# Altium footprint library FPGA_MG2.PcbLib: 42 footprints (part 1 of 3)
Each footprint in its own frame and in the unit in brackets; x right, y up, seen from the top. Pads: shape width x height; smd on the part's side, far side on the other; paste and mask are expansions set on the pad; w line width, h text height; cw(c..) or ccw(c..) is an arc to the next point about the centre after c.
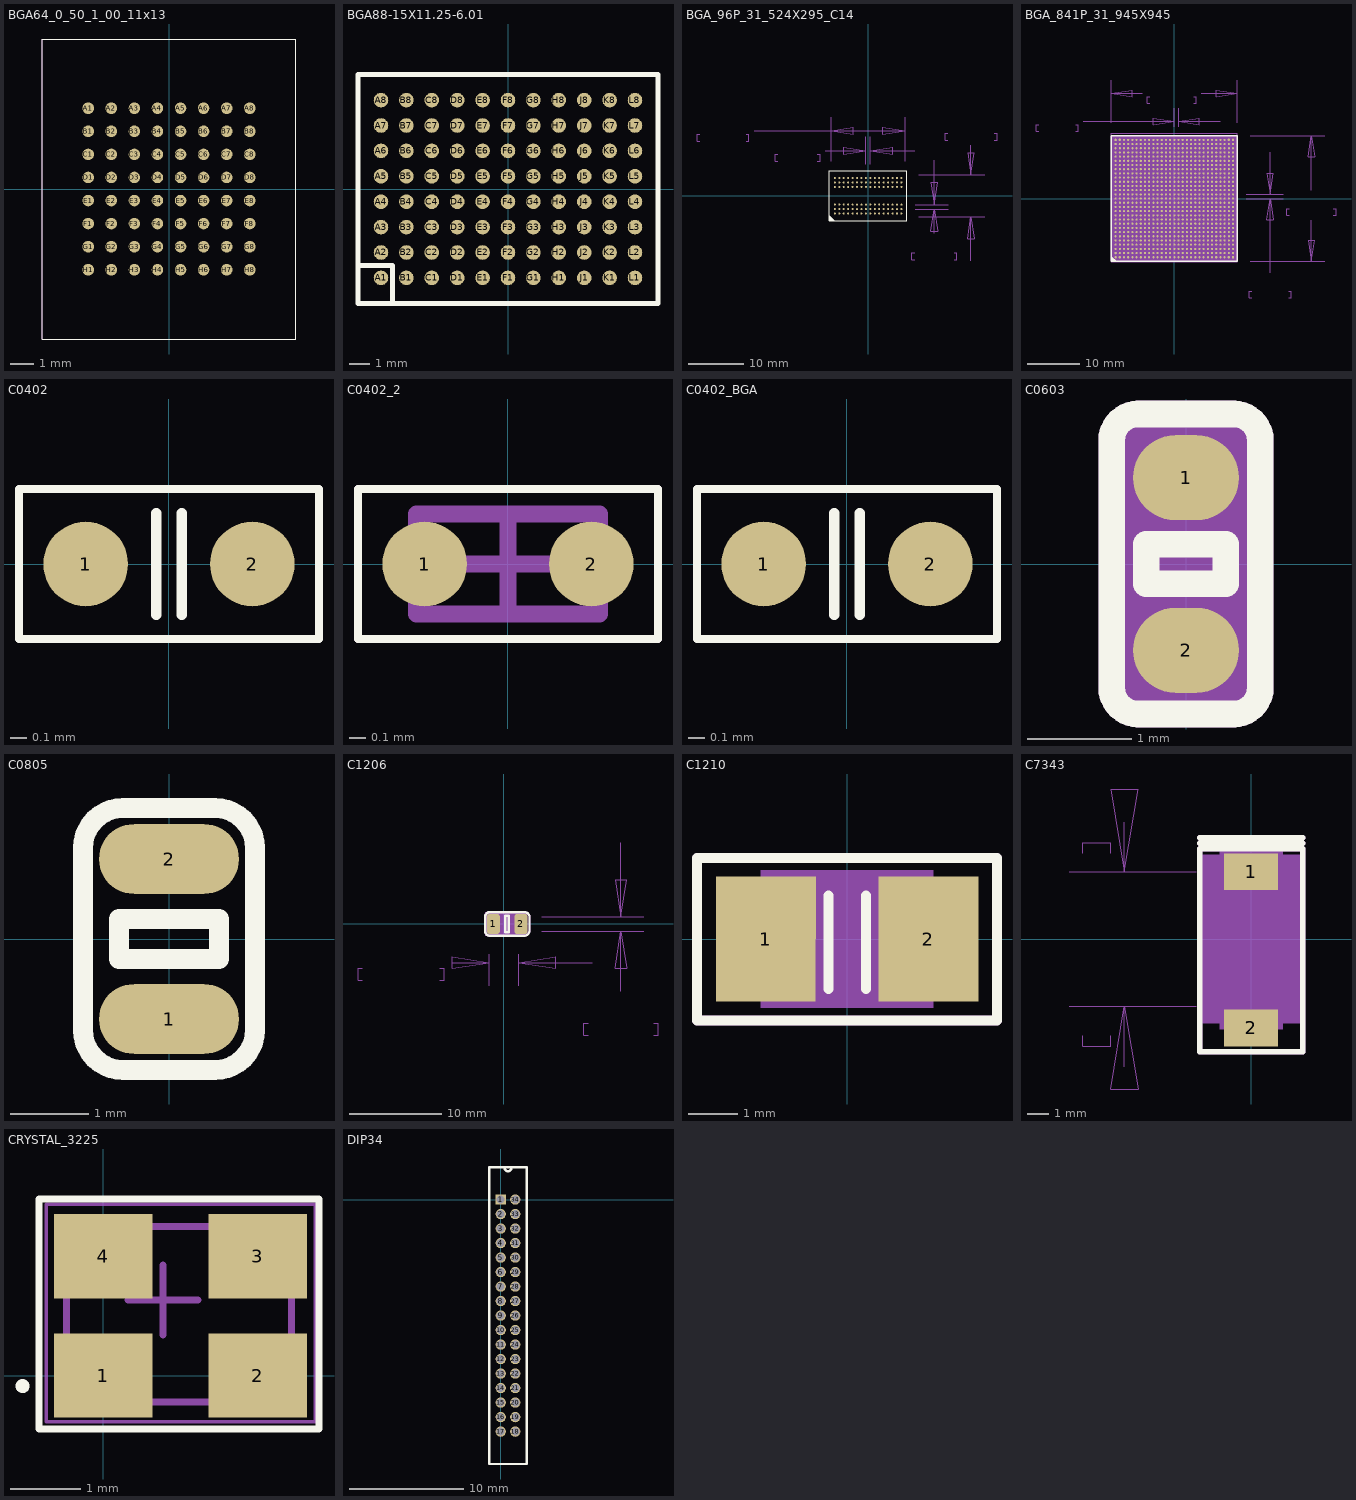
[diagram p0: the footprints below, top view; thin cyan lines are the x and y axes]

## BGA64_0_50_1_00_11x13 [mm] "BGA64_0_50_1_00_11X13"
pads (64):
  round 0.5 smd: A1(-3.5,3.5) A2(-2.5,3.5) A3(-1.5,3.5) A4(-0.5,3.5) A5(0.5,3.5) A6(1.5,3.5) A7(2.5,3.5) A8(3.5,3.5) B1(-3.5,2.5) B2(-2.5,2.5) B3(-1.5,2.5) B4(-0.5,2.5) B5(0.5,2.5) B6(1.5,2.5) B7(2.5,2.5) B8(3.5,2.5) C1(-3.5,1.5) C2(-2.5,1.5) C3(-1.5,1.5) C4(-0.5,1.5) C5(0.5,1.5) C6(1.5,1.5) C7(2.5,1.5) C8(3.5,1.5) D1(-3.5,0.5) D2(-2.5,0.5) D3(-1.5,0.5) D4(-0.5,0.5) D5(0.5,0.5) D6(1.5,0.5) D7(2.5,0.5) D8(3.5,0.5) E1(-3.5,-0.5) E2(-2.5,-0.5) E3(-1.5,-0.5) E4(-0.5,-0.5) E5(0.5,-0.5) E6(1.5,-0.5) E7(2.5,-0.5) E8(3.5,-0.5) F1(-3.5,-1.5) F2(-2.5,-1.5) F3(-1.5,-1.5) F4(-0.5,-1.5) F5(0.5,-1.5) F6(1.5,-1.5) F7(2.5,-1.5) F8(3.5,-1.5) G1(-3.5,-2.5) G2(-2.5,-2.5) G3(-1.5,-2.5) G4(-0.5,-2.5) G5(0.5,-2.5) G6(1.5,-2.5) G7(2.5,-2.5) G8(3.5,-2.5) H1(-3.5,-3.5) H2(-2.5,-3.5) H3(-1.5,-3.5) H4(-0.5,-3.5) H5(0.5,-3.5) H6(1.5,-3.5) H7(2.5,-3.5) H8(3.5,-3.5)
Top Overlay:
  lines w0.025: -5.5,-6.5 -5.5,6.5 5.5,6.5 5.5,-6.5 -5.5,-6.5
Mechanical 5:
  lines w0.025: -5.5,-6.5 -5.5,6.5 5.5,6.5 5.5,-6.5 -5.5,-6.5
  text "U7" at -0.192,6.836 h0.64
Mechanical 14:
  text "H7" at 2.094,-3.5 h0.51
  text "E8" at 3.094,-0.5 h0.51
  text "H2" at -2.907,-3.5 h0.51
  text "G5" at 0.094,-2.5 h0.51
  text "G6" at 1.094,-2.5 h0.51
  text "G3" at -1.907,-2.5 h0.51
  text "F3" at -1.907,-1.5 h0.51
  text "F5" at 0.094,-1.5 h0.51
  text "G4" at -0.907,-2.5 h0.51
  text "F2" at -2.907,-1.5 h0.51
  text "A4" at -0.907,3.5 h0.51
  text "F6" at 1.094,-1.5 h0.51
  text "G7" at 2.094,-2.5 h0.51
  text "F4" at -0.907,-1.5 h0.51
  text "A5" at 0.094,3.5 h0.51
  text "G2" at -2.907,-2.5 h0.51
  text "C7" at 2.094,1.5 h0.51
  text "C2" at -2.907,1.5 h0.51
  text "C6" at 1.094,1.5 h0.51
  text "A2" at -2.907,3.5 h0.51
  text "A3" at -1.907,3.5 h0.51
  text "D7" at 2.094,0.5 h0.51
  text "D3" at -1.907,0.5 h0.51
  text "A6" at 1.094,3.5 h0.51
  text "C3" at -1.907,1.5 h0.51
  text "E7" at 2.094,-0.5 h0.51
  text "D2" at -2.907,0.5 h0.51
  text "B6" at 1.094,2.5 h0.51
  text "D6" at 1.094,0.5 h0.51
  text "B2" at -2.907,2.5 h0.51
  text "E3" at -1.907,-0.5 h0.51
  text "E5" at 0.094,-0.5 h0.51
  text "A7" at 2.094,3.5 h0.51
  text "H6" at 1.094,-3.5 h0.51
  text "B7" at 2.094,2.5 h0.51
  text "H5" at 0.094,-3.5 h0.51
  text "E6" at 1.094,-0.5 h0.51
  text "H4" at -0.907,-3.5 h0.51
  text "E4" at -0.907,-0.5 h0.51
  text "H3" at -1.907,-3.5 h0.51
  text "B3" at -1.907,2.5 h0.51
  text "C4" at -0.907,1.5 h0.51
  text "D5" at 0.094,0.5 h0.51
  text "D4" at -0.907,0.5 h0.51
  text "C5" at 0.094,1.5 h0.51
  text "B8" at 3.094,2.5 h0.51
  text "E2" at -2.907,-0.5 h0.51
  text "C8" at 3.094,1.5 h0.51
  text "B5" at 0.094,2.5 h0.51
  text "B4" at -0.907,2.5 h0.51
  text "F7" at 2.094,-1.5 h0.51
  text "B1" at -3.907,2.5 h0.51
  text "F8" at 3.094,-1.5 h0.51
  text "G8" at 3.094,-2.5 h0.51
  text "G1" at -3.907,-2.5 h0.51
  text "E1" at -3.907,-0.5 h0.51
  text "D1" at -3.907,0.5 h0.51
  text "C1" at -3.907,1.5 h0.51
  text "H8" at 3.094,-3.5 h0.51
  text "H1" at -3.907,-3.5 h0.51
  text "A8" at 3.094,3.5 h0.51
  text "A1" at -3.907,3.5 h0.51
  text "D8" at 3.094,0.5 h0.51
  text "F1" at -3.907,-1.5 h0.51
Mechanical 16:
  lines w0.025: -5.5,-6.5 -5.5,6.5 ; -5.5,-6.5 5.5,-6.5 ; -5.5,-6.5 -5.5,6.5 ; -5.5,-6.5 5.5,-6.5 ; -5.5,-6.5 -5.5,6.5 ; -5.5,-6.5 5.5,-6.5 ; -5.5,6.5 5.5,6.5 ; -5.5,6.5 5.5,6.5 ; -5.5,6.5 5.5,6.5 ; 5.5,-6.5 5.5,6.5 ; 5.5,-6.5 5.5,6.5 ; 5.5,-6.5 5.5,6.5
Mechanical 17:
  text ".Designator" at -1.016,-0.423 h1.27

## BGA88-15X11.25-6.01 [mm]
pads (88):
  round 0.73 smd: A1(-6.35,-4.445) A2(-6.35,-3.175) A3(-6.35,-1.905) A4(-6.35,-0.635) A5(-6.35,0.635) A6(-6.35,1.905) A7(-6.35,3.175) A8(-6.35,4.445) B1(-5.08,-4.445) B2(-5.08,-3.175) B3(-5.08,-1.905) B4(-5.08,-0.635) B5(-5.08,0.635) B6(-5.08,1.905) B7(-5.08,3.175) B8(-5.08,4.445) C1(-3.81,-4.445) C2(-3.81,-3.175) C3(-3.81,-1.905) C4(-3.81,-0.635) C5(-3.81,0.635) C6(-3.81,1.905) C7(-3.81,3.175) C8(-3.81,4.445) D1(-2.54,-4.445) D2(-2.54,-3.175) D3(-2.54,-1.905) D4(-2.54,-0.635) D5(-2.54,0.635) D6(-2.54,1.905) D7(-2.54,3.175) D8(-2.54,4.445) E1(-1.27,-4.445) E2(-1.27,-3.175) E3(-1.27,-1.905) E4(-1.27,-0.635) E5(-1.27,0.635) E6(-1.27,1.905) E7(-1.27,3.175) E8(-1.27,4.445) F1(0,-4.445) F2(0,-3.175) F3(0,-1.905) F4(0,-0.635) F5(0,0.635) F6(0,1.905) F7(0,3.175) F8(0,4.445) G1(1.27,-4.445) G2(1.27,-3.175) G3(1.27,-1.905) G4(1.27,-0.635) G5(1.27,0.635) G6(1.27,1.905) G7(1.27,3.175) G8(1.27,4.445) H1(2.54,-4.445) H2(2.54,-3.175) H3(2.54,-1.905) H4(2.54,-0.635) H5(2.54,0.635) H6(2.54,1.905) H7(2.54,3.175) H8(2.54,4.445) J1(3.81,-4.445) J2(3.81,-3.175) J3(3.81,-1.905) J4(3.81,-0.635) J5(3.81,0.635) J6(3.81,1.905) J7(3.81,3.175) J8(3.81,4.445) K1(5.08,-4.445) K2(5.08,-3.175) K3(5.08,-1.905) K4(5.08,-0.635) K5(5.08,0.635) K6(5.08,1.905) K7(5.08,3.175) K8(5.08,4.445) L1(6.35,-4.445) L2(6.35,-3.175) L3(6.35,-1.905) L4(6.35,-0.635) L5(6.35,0.635) L6(6.35,1.905) L7(6.35,3.175) L8(6.35,4.445)
Top Overlay:
  lines w0.254: -7.493,-3.835 -5.765,-3.835 -5.765,-5.715 ; -7.5,-5.715 7.5,-5.715 7.5,5.715 -7.5,5.715 -7.5,-5.715

## BGA_96P_31_524X295_C14 [mil] "BGA_96P_31_524X295_C14"
pads (96):
  round 14 smd: A1(-236.22,-125.98) A2(-236.22,-94.49) A3(-236.22,-62.99) A7(-236.22,62.99) A8(-236.22,94.49) A9(-236.22,125.98) B1(-204.72,-125.98) B2(-204.72,-94.49) B3(-204.72,-62.99) B7(-204.72,62.99) B8(-204.72,94.49) B9(-204.72,125.98) C1(-173.23,-125.98) C2(-173.23,-94.49) C3(-173.23,-62.99) C7(-173.23,62.99) C8(-173.23,94.49) C9(-173.23,125.98) D1(-141.73,-125.98) D2(-141.73,-94.49) D3(-141.73,-62.99) D7(-141.73,62.99) D8(-141.73,94.49) D9(-141.73,125.98) E1(-110.24,-125.98) E2(-110.24,-94.49) E3(-110.24,-62.99) E7(-110.24,62.99) E8(-110.24,94.49) E9(-110.24,125.98) F1(-78.74,-125.98) F2(-78.74,-94.49) F3(-78.74,-62.99) F7(-78.74,62.99) F8(-78.74,94.49) F9(-78.74,125.98) G1(-47.24,-125.98) G2(-47.24,-94.49) G3(-47.24,-62.99) G7(-47.24,62.99) G8(-47.24,94.49) G9(-47.24,125.98) H1(-15.75,-125.98) H2(-15.75,-94.49) H3(-15.75,-62.99) H7(-15.75,62.99) H8(-15.75,94.49) H9(-15.75,125.98) J1(15.75,-125.98) J2(15.75,-94.49) J3(15.75,-62.99) J7(15.75,62.99) J8(15.75,94.49) J9(15.75,125.98) K1(47.24,-125.98) K2(47.24,-94.49) K3(47.24,-62.99) K7(47.24,62.99) K8(47.24,94.49) K9(47.24,125.98) L1(78.74,-125.98) L2(78.74,-94.49) L3(78.74,-62.99) L7(78.74,62.99) L8(78.74,94.49) L9(78.74,125.98) M1(110.24,-125.98) M2(110.24,-94.49) M3(110.24,-62.99) M7(110.24,62.99) M8(110.24,94.49) M9(110.24,125.98) N1(141.73,-125.98) N2(141.73,-94.49) N3(141.73,-62.99) N7(141.73,62.99) N8(141.73,94.49) N9(141.73,125.98) P1(173.23,-125.98) P2(173.23,-94.49) P3(173.23,-62.99) P7(173.23,62.99) P8(173.23,94.49) P9(173.23,125.98) R1(204.72,-125.98) R2(204.72,-94.49) R3(204.72,-62.99) R7(204.72,62.99) R8(204.72,94.49) R9(204.72,125.98) T1(236.22,-125.98) T2(236.22,-94.49) T3(236.22,-62.99) T7(236.22,62.99) T8(236.22,94.49) T9(236.22,125.98)
Top Overlay:
  lines w3.94: -275.98,-142.52 -275.2,-142.52 -241.73,-175.98 -248.82,-175.98 -275.2,-149.61 -275.2,-156.3 -255.12,-176.38 -261.42,-176.38 -274.41,-163.39 -274.41,-170.08 -268.11,-176.38 ; -275.59,-177.16 275.59,-177.16 275.59,177.16 -275.59,177.16 -275.59,-177.16
Mechanical 13:
  lines w1: -1195.67,385.04 -1214.57,385.04 -1214.57,435.04 -1195.67,435.04 ; -864.57,385.04 -845.67,385.04 -845.67,435.04 -864.57,435.04 ; -807.87,459.84 -261.81,459.84 ; -640.16,244.88 -659.06,244.88 -659.06,294.88 -640.16,294.88 ; -359.84,244.88 -340.94,244.88 -340.94,294.88 -359.84,294.88 ; -303.54,320.08 -15.75,320.08 ; -261.81,246.06 -261.81,558.27 ; -15.75,224.41 -15.75,418.5 ; 15.75,224.41 15.75,418.5 ; 261.81,246.06 261.81,558.27 ; 329.92,-455.12 311.02,-455.12 311.02,-405.12 329.92,-405.12 ; 330.71,320.08 15.75,320.08 ; 334.65,-94.49 568.5,-94.49 ; 334.65,-62.99 568.5,-62.99 ; 360.24,-147.64 828.35,-147.64 ; 360.24,147.64 828.35,147.64 ; 470.08,-267.32 470.08,-94.49 ; 470.08,251.97 470.08,-62.99 ; 564.57,394.88 545.67,394.88 545.67,444.88 564.57,444.88 ; 609.84,-455.12 629.13,-455.12 629.13,-405.12 609.84,-405.12 ; 729.92,-462.6 729.92,-147.64 ; 729.92,357.48 729.92,147.64 ; 895.67,394.88 914.57,394.88 914.57,444.88 895.67,444.88 ; -261.81,459.84 -104.33,484.65 -104.33,435.43 -261.81,459.84 ; -261.81,459.84 261.81,459.84 ; -15.75,320.08 -173.23,295.28 -173.23,344.49 -15.75,320.08 ; 15.75,320.08 173.23,344.49 173.23,295.28 15.75,320.08 ; 261.81,459.84 104.33,435.43 104.33,484.65 261.81,459.84 ; 470.08,-94.49 494.49,-251.97 445.28,-251.97 470.08,-94.49 ; 470.08,-62.99 445.28,94.49 494.49,94.49 470.08,-62.99 ; 729.92,-147.64 754.72,-305.12 705.51,-305.12 729.92,-147.64 ; 729.92,147.64 705.51,305.12 754.72,305.12 729.92,147.64
  text "0.8" at -570.08,344.88 h50
  text "31.50" at -620.87,244.88 h50
  text "0.8" at 400,-355.12 h50
  text "31.50" at 348.82,-455.12 h50
  text "13.3" at -1125.59,485.04 h50
  text "523.62" at -1176.38,385.04 h50
  text "7.5" at 659.84,494.88 h50
  text "295.28" at 583.46,394.88 h50

## BGA_841P_31_945X945 [mil] "BGA_841P_31_945X945"
pads (841):
  round 18 smd: A1(-440.94,-440.94) A2(-440.94,-409.45) A28(-440.94,409.45) A29(-440.94,440.94) AH1(409.45,-440.94) AH29(409.45,440.94) AJ1(440.94,-440.94) AJ2(440.94,-409.45) AJ28(440.94,409.45) AJ29(440.94,440.94) B1(-409.45,-440.94) B29(-409.45,440.94)
  round 16 smd: A3(-440.94,-377.95) A4(-440.94,-346.46) A5(-440.94,-314.96) A6(-440.94,-283.46) A7(-440.94,-251.97) A8(-440.94,-220.47) A9(-440.94,-188.98) A10(-440.94,-157.48) A11(-440.94,-125.98) A12(-440.94,-94.49) A13(-440.94,-62.99) A14(-440.94,-31.5) A15(-440.94,0) A16(-440.94,31.5) A17(-440.94,62.99) A18(-440.94,94.49) A19(-440.94,125.98) A20(-440.94,157.48) A21(-440.94,188.98) A22(-440.94,220.47) A23(-440.94,251.97) A24(-440.94,283.46) A25(-440.94,314.96) A26(-440.94,346.46) A27(-440.94,377.95) AA1(188.98,-440.94) AA2(188.98,-409.45) AA3(188.98,-377.95) AA4(188.98,-346.46) AA5(188.98,-314.96) AA6(188.98,-283.46) AA7(188.98,-251.97) AA8(188.98,-220.47) AA9(188.98,-188.98) AA10(188.98,-157.48) AA11(188.98,-125.98) AA12(188.98,-94.49) AA13(188.98,-62.99) AA14(188.98,-31.5) AA15(188.98,0) AA16(188.98,31.5) AA17(188.98,62.99) AA18(188.98,94.49) AA19(188.98,125.98) AA20(188.98,157.48) AA21(188.98,188.98) AA22(188.98,220.47) AA23(188.98,251.97) AA24(188.98,283.46) AA25(188.98,314.96) AA26(188.98,346.46) AA27(188.98,377.95) AA28(188.98,409.45) AA29(188.98,440.94) AB1(220.47,-440.94) AB2(220.47,-409.45) AB3(220.47,-377.95) AB4(220.47,-346.46) AB5(220.47,-314.96) AB6(220.47,-283.46) AB7(220.47,-251.97) AB8(220.47,-220.47) AB9(220.47,-188.98) AB10(220.47,-157.48) AB11(220.47,-125.98) AB12(220.47,-94.49) AB13(220.47,-62.99) AB14(220.47,-31.5) AB15(220.47,0) AB16(220.47,31.5) AB17(220.47,62.99) AB18(220.47,94.49) AB19(220.47,125.98) AB20(220.47,157.48) AB21(220.47,188.98) AB22(220.47,220.47) AB23(220.47,251.97) AB24(220.47,283.46) AB25(220.47,314.96) AB26(220.47,346.46) AB27(220.47,377.95) AB28(220.47,409.45) AB29(220.47,440.94) AC1(251.97,-440.94) AC2(251.97,-409.45) AC3(251.97,-377.95) AC4(251.97,-346.46) AC5(251.97,-314.96) AC6(251.97,-283.46) AC7(251.97,-251.97) AC8(251.97,-220.47) AC9(251.97,-188.98) AC10(251.97,-157.48) AC11(251.97,-125.98) AC12(251.97,-94.49) AC13(251.97,-62.99) AC14(251.97,-31.5) AC15(251.97,0) AC16(251.97,31.5) AC17(251.97,62.99) AC18(251.97,94.49) AC19(251.97,125.98) AC20(251.97,157.48) AC21(251.97,188.98) AC22(251.97,220.47) AC23(251.97,251.97) AC24(251.97,283.46) AC25(251.97,314.96) AC26(251.97,346.46) AC27(251.97,377.95) AC28(251.97,409.45) AC29(251.97,440.94) AD1(283.46,-440.94) AD2(283.46,-409.45) AD3(283.46,-377.95) AD4(283.46,-346.46) AD5(283.46,-314.96) AD6(283.46,-283.46) AD7(283.46,-251.97) AD8(283.46,-220.47) AD9(283.46,-188.98) AD10(283.46,-157.48) AD11(283.46,-125.98) AD12(283.46,-94.49) AD13(283.46,-62.99) AD14(283.46,-31.5) AD15(283.46,0) AD16(283.46,31.5) AD17(283.46,62.99) AD18(283.46,94.49) AD19(283.46,125.98) AD20(283.46,157.48) AD21(283.46,188.98) AD22(283.46,220.47) AD23(283.46,251.97) AD24(283.46,283.46) AD25(283.46,314.96) AD26(283.46,346.46) AD27(283.46,377.95) AD28(283.46,409.45) AD29(283.46,440.94) AE1(314.96,-440.94) AE2(314.96,-409.45) AE3(314.96,-377.95) AE4(314.96,-346.46) AE5(314.96,-314.96) AE6(314.96,-283.46) AE7(314.96,-251.97) AE8(314.96,-220.47) AE9(314.96,-188.98) AE10(314.96,-157.48) AE11(314.96,-125.98) AE12(314.96,-94.49) AE13(314.96,-62.99) AE14(314.96,-31.5) AE15(314.96,0) AE16(314.96,31.5) AE17(314.96,62.99) AE18(314.96,94.49) AE19(314.96,125.98) AE20(314.96,157.48) AE21(314.96,188.98) AE22(314.96,220.47) AE23(314.96,251.97) AE24(314.96,283.46) AE25(314.96,314.96) AE26(314.96,346.46) AE27(314.96,377.95) AE28(314.96,409.45) AE29(314.96,440.94) AF1(346.46,-440.94) AF2(346.46,-409.45) AF3(346.46,-377.95) AF4(346.46,-346.46) AF5(346.46,-314.96) AF6(346.46,-283.46) AF7(346.46,-251.97) AF8(346.46,-220.47) AF9(346.46,-188.98) AF10(346.46,-157.48) AF11(346.46,-125.98) AF12(346.46,-94.49) AF13(346.46,-62.99) AF14(346.46,-31.5) AF15(346.46,0) AF16(346.46,31.5) AF17(346.46,62.99) AF18(346.46,94.49) AF19(346.46,125.98) AF20(346.46,157.48) AF21(346.46,188.98) AF22(346.46,220.47) AF23(346.46,251.97) AF24(346.46,283.46) AF25(346.46,314.96) AF26(346.46,346.46) AF27(346.46,377.95) AF28(346.46,409.45) AF29(346.46,440.94) AG1(377.95,-440.94) AG2(377.95,-409.45) AG3(377.95,-377.95) AG4(377.95,-346.46) AG5(377.95,-314.96) AG6(377.95,-283.46) AG7(377.95,-251.97) AG8(377.95,-220.47) AG9(377.95,-188.98) AG10(377.95,-157.48) AG11(377.95,-125.98) AG12(377.95,-94.49) AG13(377.95,-62.99) AG14(377.95,-31.5) AG15(377.95,0) AG16(377.95,31.5) AG17(377.95,62.99) AG18(377.95,94.49) AG19(377.95,125.98) AG20(377.95,157.48) AG21(377.95,188.98) AG22(377.95,220.47) AG23(377.95,251.97) AG24(377.95,283.46) AG25(377.95,314.96) AG26(377.95,346.46) AG27(377.95,377.95) AG28(377.95,409.45) AG29(377.95,440.94) AH2(409.45,-409.45) AH3(409.45,-377.95) AH4(409.45,-346.46) AH5(409.45,-314.96) AH6(409.45,-283.46) AH7(409.45,-251.97) AH8(409.45,-220.47) AH9(409.45,-188.98) AH10(409.45,-157.48) AH11(409.45,-125.98) AH12(409.45,-94.49) AH13(409.45,-62.99) AH14(409.45,-31.5) AH15(409.45,0) AH16(409.45,31.5) AH17(409.45,62.99) AH18(409.45,94.49) AH19(409.45,125.98) AH20(409.45,157.48) AH21(409.45,188.98) AH22(409.45,220.47) AH23(409.45,251.97) AH24(409.45,283.46) AH25(409.45,314.96) AH26(409.45,346.46) AH27(409.45,377.95) AH28(409.45,409.45) AJ3(440.94,-377.95) AJ4(440.94,-346.46) AJ5(440.94,-314.96) AJ6(440.94,-283.46) AJ7(440.94,-251.97) AJ8(440.94,-220.47) AJ9(440.94,-188.98) AJ10(440.94,-157.48) AJ11(440.94,-125.98) AJ12(440.94,-94.49) AJ13(440.94,-62.99) AJ14(440.94,-31.5) AJ15(440.94,0) AJ16(440.94,31.5) AJ17(440.94,62.99) AJ18(440.94,94.49) AJ19(440.94,125.98) AJ20(440.94,157.48) AJ21(440.94,188.98) AJ22(440.94,220.47) AJ23(440.94,251.97) AJ24(440.94,283.46) AJ25(440.94,314.96) AJ26(440.94,346.46) AJ27(440.94,377.95) B2(-409.45,-409.45) B3(-409.45,-377.95) B4(-409.45,-346.46) B5(-409.45,-314.96) B6(-409.45,-283.46) B7(-409.45,-251.97) B8(-409.45,-220.47) B9(-409.45,-188.98) B10(-409.45,-157.48) B11(-409.45,-125.98) B12(-409.45,-94.49) B13(-409.45,-62.99) B14(-409.45,-31.5) B15(-409.45,0) B16(-409.45,31.5) B17(-409.45,62.99) B18(-409.45,94.49) B19(-409.45,125.98) B20(-409.45,157.48) B21(-409.45,188.98) B22(-409.45,220.47) B23(-409.45,251.97) B24(-409.45,283.46) B25(-409.45,314.96) B26(-409.45,346.46) B27(-409.45,377.95) B28(-409.45,409.45) C1(-377.95,-440.94) C2(-377.95,-409.45) C3(-377.95,-377.95) C4(-377.95,-346.46) C5(-377.95,-314.96) C6(-377.95,-283.46) C7(-377.95,-251.97) C8(-377.95,-220.47) C9(-377.95,-188.98) C10(-377.95,-157.48) C11(-377.95,-125.98) C12(-377.95,-94.49) C13(-377.95,-62.99) C14(-377.95,-31.5) C15(-377.95,0) C16(-377.95,31.5) C17(-377.95,62.99) C18(-377.95,94.49) C19(-377.95,125.98) C20(-377.95,157.48) C21(-377.95,188.98) C22(-377.95,220.47) C23(-377.95,251.97) C24(-377.95,283.46) C25(-377.95,314.96) C26(-377.95,346.46) C27(-377.95,377.95) C28(-377.95,409.45) C29(-377.95,440.94) D1(-346.46,-440.94) D2(-346.46,-409.45) D3(-346.46,-377.95) D4(-346.46,-346.46) D5(-346.46,-314.96) D6(-346.46,-283.46) D7(-346.46,-251.97) D8(-346.46,-220.47) D9(-346.46,-188.98) D10(-346.46,-157.48) D11(-346.46,-125.98) D12(-346.46,-94.49) D13(-346.46,-62.99) D14(-346.46,-31.5) D15(-346.46,0) D16(-346.46,31.5) D17(-346.46,62.99) D18(-346.46,94.49) D19(-346.46,125.98) D20(-346.46,157.48) D21(-346.46,188.98) D22(-346.46,220.47) D23(-346.46,251.97) D24(-346.46,283.46) D25(-346.46,314.96) D26(-346.46,346.46) D27(-346.46,377.95) D28(-346.46,409.45) D29(-346.46,440.94) E1(-314.96,-440.94) E2(-314.96,-409.45) E3(-314.96,-377.95) E4(-314.96,-346.46) E5(-314.96,-314.96) E6(-314.96,-283.46) E7(-314.96,-251.97) E8(-314.96,-220.47) E9(-314.96,-188.98) E10(-314.96,-157.48) E11(-314.96,-125.98) E12(-314.96,-94.49) E13(-314.96,-62.99) E14(-314.96,-31.5) E15(-314.96,0) E16(-314.96,31.5) E17(-314.96,62.99) E18(-314.96,94.49) E19(-314.96,125.98) E20(-314.96,157.48) E21(-314.96,188.98) E22(-314.96,220.47) E23(-314.96,251.97) E24(-314.96,283.46) E25(-314.96,314.96) E26(-314.96,346.46) E27(-314.96,377.95) E28(-314.96,409.45) E29(-314.96,440.94) F1(-283.46,-440.94) F2(-283.46,-409.45) F3(-283.46,-377.95) F4(-283.46,-346.46) F5(-283.46,-314.96) F6(-283.46,-283.46) F7(-283.46,-251.97) F8(-283.46,-220.47) F9(-283.46,-188.98) F10(-283.46,-157.48) F11(-283.46,-125.98) F12(-283.46,-94.49) F13(-283.46,-62.99) F14(-283.46,-31.5) F15(-283.46,0) F16(-283.46,31.5) F17(-283.46,62.99) F18(-283.46,94.49) F19(-283.46,125.98) F20(-283.46,157.48) F21(-283.46,188.98) F22(-283.46,220.47) F23(-283.46,251.97) F24(-283.46,283.46) F25(-283.46,314.96) F26(-283.46,346.46) F27(-283.46,377.95) F28(-283.46,409.45) F29(-283.46,440.94) G1(-251.97,-440.94) G2(-251.97,-409.45) G3(-251.97,-377.95) G4(-251.97,-346.46) G5(-251.97,-314.96) G6(-251.97,-283.46) G7(-251.97,-251.97) G8(-251.97,-220.47) G9(-251.97,-188.98) G10(-251.97,-157.48) G11(-251.97,-125.98) G12(-251.97,-94.49) G13(-251.97,-62.99) G14(-251.97,-31.5) G15(-251.97,0) G16(-251.97,31.5) G17(-251.97,62.99) G18(-251.97,94.49) G19(-251.97,125.98) G20(-251.97,157.48) G21(-251.97,188.98) G22(-251.97,220.47) G23(-251.97,251.97) G24(-251.97,283.46) G25(-251.97,314.96) G26(-251.97,346.46) G27(-251.97,377.95) G28(-251.97,409.45) G29(-251.97,440.94) H1(-220.47,-440.94) H2(-220.47,-409.45) H3(-220.47,-377.95) H4(-220.47,-346.46) H5(-220.47,-314.96) H6(-220.47,-283.46) H7(-220.47,-251.97) H8(-220.47,-220.47) H9(-220.47,-188.98) H10(-220.47,-157.48) H11(-220.47,-125.98) H12(-220.47,-94.49) H13(-220.47,-62.99) H14(-220.47,-31.5) H15(-220.47,0) H16(-220.47,31.5) H17(-220.47,62.99) H18(-220.47,94.49) H19(-220.47,125.98) H20(-220.47,157.48) H21(-220.47,188.98) H22(-220.47,220.47) H23(-220.47,251.97) H24(-220.47,283.46) H25(-220.47,314.96) H26(-220.47,346.46) H27(-220.47,377.95) H28(-220.47,409.45) H29(-220.47,440.94) J1(-188.98,-440.94) J2(-188.98,-409.45) J3(-188.98,-377.95) J4(-188.98,-346.46) J5(-188.98,-314.96) J6(-188.98,-283.46) J7(-188.98,-251.97) J8(-188.98,-220.47) J9(-188.98,-188.98) J10(-188.98,-157.48) J11(-188.98,-125.98) J12(-188.98,-94.49) J13(-188.98,-62.99) J14(-188.98,-31.5) J15(-188.98,0) J16(-188.98,31.5) J17(-188.98,62.99) J18(-188.98,94.49) J19(-188.98,125.98) J20(-188.98,157.48) J21(-188.98,188.98) J22(-188.98,220.47) J23(-188.98,251.97) J24(-188.98,283.46) J25(-188.98,314.96) J26(-188.98,346.46) J27(-188.98,377.95) J28(-188.98,409.45) J29(-188.98,440.94) K1(-157.48,-440.94) K2(-157.48,-409.45) K3(-157.48,-377.95) K4(-157.48,-346.46) K5(-157.48,-314.96) K6(-157.48,-283.46) K7(-157.48,-251.97) K8(-157.48,-220.47) K9(-157.48,-188.98) K10(-157.48,-157.48) K11(-157.48,-125.98) K12(-157.48,-94.49) K13(-157.48,-62.99) K14(-157.48,-31.5) K15(-157.48,0) K16(-157.48,31.5) K17(-157.48,62.99) K18(-157.48,94.49) K19(-157.48,125.98) K20(-157.48,157.48) K21(-157.48,188.98) K22(-157.48,220.47) K23(-157.48,251.97) K24(-157.48,283.46) K25(-157.48,314.96) K26(-157.48,346.46) K27(-157.48,377.95) K28(-157.48,409.45) K29(-157.48,440.94) L1(-125.98,-440.94) L2(-125.98,-409.45) L3(-125.98,-377.95) L4(-125.98,-346.46) L5(-125.98,-314.96) L6(-125.98,-283.46) L7(-125.98,-251.97) L8(-125.98,-220.47) L9(-125.98,-188.98) L10(-125.98,-157.48) L11(-125.98,-125.98) L12(-125.98,-94.49) L13(-125.98,-62.99) L14(-125.98,-31.5) L15(-125.98,0) L16(-125.98,31.5) L17(-125.98,62.99) L18(-125.98,94.49) L19(-125.98,125.98) L20(-125.98,157.48) L21(-125.98,188.98) L22(-125.98,220.47) L23(-125.98,251.97) L24(-125.98,283.46) L25(-125.98,314.96) L26(-125.98,346.46) L27(-125.98,377.95) L28(-125.98,409.45) L29(-125.98,440.94) M1(-94.49,-440.94) M2(-94.49,-409.45) M3(-94.49,-377.95) M4(-94.49,-346.46) M5(-94.49,-314.96) M6(-94.49,-283.46) M7(-94.49,-251.97) M8(-94.49,-220.47) M9(-94.49,-188.98) M10(-94.49,-157.48) M11(-94.49,-125.98) M12(-94.49,-94.49) M13(-94.49,-62.99) M14(-94.49,-31.5) M15(-94.49,0) M16(-94.49,31.5) M17(-94.49,62.99) M18(-94.49,94.49) M19(-94.49,125.98) M20(-94.49,157.48) M21(-94.49,188.98) M22(-94.49,220.47) M23(-94.49,251.97) M24(-94.49,283.46) M25(-94.49,314.96) M26(-94.49,346.46) M27(-94.49,377.95) M28(-94.49,409.45) M29(-94.49,440.94) N1(-62.99,-440.94) N2(-62.99,-409.45) N3(-62.99,-377.95) N4(-62.99,-346.46) N5(-62.99,-314.96) N6(-62.99,-283.46) N7(-62.99,-251.97) N8(-62.99,-220.47) N9(-62.99,-188.98) N10(-62.99,-157.48) N11(-62.99,-125.98) N12(-62.99,-94.49) N13(-62.99,-62.99) N14(-62.99,-31.5) N15(-62.99,0) N16(-62.99,31.5) N17(-62.99,62.99) N18(-62.99,94.49) N19(-62.99,125.98) N20(-62.99,157.48) N21(-62.99,188.98) N22(-62.99,220.47) N23(-62.99,251.97) N24(-62.99,283.46) N25(-62.99,314.96) N26(-62.99,346.46) N27(-62.99,377.95) N28(-62.99,409.45) N29(-62.99,440.94) P1(-31.5,-440.94) P2(-31.5,-409.45) P3(-31.5,-377.95) P4(-31.5,-346.46) P5(-31.5,-314.96) P6(-31.5,-283.46) P7(-31.5,-251.97) P8(-31.5,-220.47) P9(-31.5,-188.98) P10(-31.5,-157.48) P11(-31.5,-125.98) P12(-31.5,-94.49) P13(-31.5,-62.99) P14(-31.5,-31.5) P15(-31.5,0) P16(-31.5,31.5) P17(-31.5,62.99) P18(-31.5,94.49) P19(-31.5,125.98) P20(-31.5,157.48) P21(-31.5,188.98) P22(-31.5,220.47) P23(-31.5,251.97) P24(-31.5,283.46) P25(-31.5,314.96) P26(-31.5,346.46) P27(-31.5,377.95) P28(-31.5,409.45) P29(-31.5,440.94) R1(0,-440.94) R2(0,-409.45) R3(0,-377.95) R4(0,-346.46) R5(0,-314.96) R6(0,-283.46) R7(0,-251.97) R8(0,-220.47) R9(0,-188.98) R10(0,-157.48) R11(0,-125.98) R12(0,-94.49) R13(0,-62.99) R14(0,-31.5) R15(0,0) R16(0,31.5) R17(0,62.99) R18(0,94.49) R19(0,125.98) R20(0,157.48) R21(0,188.98) R22(0,220.47) R23(0,251.97) R24(0,283.46) R25(0,314.96) R26(0,346.46) R27(0,377.95) R28(0,409.45) R29(0,440.94) T1(31.5,-440.94) T2(31.5,-409.45) T3(31.5,-377.95) T4(31.5,-346.46) T5(31.5,-314.96) T6(31.5,-283.46) T7(31.5,-251.97) T8(31.5,-220.47) T9(31.5,-188.98) T10(31.5,-157.48) T11(31.5,-125.98) T12(31.5,-94.49) T13(31.5,-62.99) T14(31.5,-31.5) T15(31.5,0) T16(31.5,31.5) T17(31.5,62.99) T18(31.5,94.49) T19(31.5,125.98) T20(31.5,157.48) T21(31.5,188.98) T22(31.5,220.47) T23(31.5,251.97) T24(31.5,283.46) T25(31.5,314.96) T26(31.5,346.46) T27(31.5,377.95) T28(31.5,409.45) T29(31.5,440.94) U1(62.99,-440.94) U2(62.99,-409.45) U3(62.99,-377.95) U4(62.99,-346.46) U5(62.99,-314.96) U6(62.99,-283.46) U7(62.99,-251.97) U8(62.99,-220.47) U9(62.99,-188.98) U10(62.99,-157.48) U11(62.99,-125.98) U12(62.99,-94.49) U13(62.99,-62.99) U14(62.99,-31.5) U15(62.99,0) U16(62.99,31.5) U17(62.99,62.99) U18(62.99,94.49) U19(62.99,125.98) U20(62.99,157.48) U21(62.99,188.98) U22(62.99,220.47) U23(62.99,251.97) U24(62.99,283.46) U25(62.99,314.96) U26(62.99,346.46) U27(62.99,377.95) U28(62.99,409.45) U29(62.99,440.94) V1(94.49,-440.94) V2(94.49,-409.45) V3(94.49,-377.95) V4(94.49,-346.46) V5(94.49,-314.96) V6(94.49,-283.46) V7(94.49,-251.97) V8(94.49,-220.47) V9(94.49,-188.98) V10(94.49,-157.48) V11(94.49,-125.98) V12(94.49,-94.49) V13(94.49,-62.99) V14(94.49,-31.5) V15(94.49,0) V16(94.49,31.5) V17(94.49,62.99) V18(94.49,94.49) V19(94.49,125.98) V20(94.49,157.48) V21(94.49,188.98) V22(94.49,220.47) V23(94.49,251.97) V24(94.49,283.46) V25(94.49,314.96) V26(94.49,346.46) V27(94.49,377.95) V28(94.49,409.45) V29(94.49,440.94) W1(125.98,-440.94) W2(125.98,-409.45) W3(125.98,-377.95) W4(125.98,-346.46) W5(125.98,-314.96) W6(125.98,-283.46) W7(125.98,-251.97) W8(125.98,-220.47) W9(125.98,-188.98) W10(125.98,-157.48) W11(125.98,-125.98) W12(125.98,-94.49) W13(125.98,-62.99) W14(125.98,-31.5) W15(125.98,0) W16(125.98,31.5) W17(125.98,62.99) W18(125.98,94.49) W19(125.98,125.98) W20(125.98,157.48) W21(125.98,188.98) W22(125.98,220.47) W23(125.98,251.97) W24(125.98,283.46) W25(125.98,314.96) W26(125.98,346.46) W27(125.98,377.95) W28(125.98,409.45) W29(125.98,440.94) Y1(157.48,-440.94) Y2(157.48,-409.45) Y3(157.48,-377.95) Y4(157.48,-346.46) Y5(157.48,-314.96) Y6(157.48,-283.46) Y7(157.48,-251.97) Y8(157.48,-220.47) Y9(157.48,-188.98) Y10(157.48,-157.48) Y11(157.48,-125.98) Y12(157.48,-94.49) Y13(157.48,-62.99) Y14(157.48,-31.5) Y15(157.48,0) Y16(157.48,31.5) Y17(157.48,62.99) Y18(157.48,94.49) Y19(157.48,125.98) Y20(157.48,157.48) Y21(157.48,188.98) Y22(157.48,220.47) Y23(157.48,251.97) Y24(157.48,283.46) Y25(157.48,314.96) Y26(157.48,346.46) Y27(157.48,377.95) Y28(157.48,409.45) Y29(157.48,440.94)
Top Overlay:
  pour cut-out: -472.53,-471.48 -437.68,-471.48 -436.64,-472.52 -436.64,-468.34 -469.39,-435.59 -472.18,-438.38 -472.18,-471.13
  lines w10: -472.44,-472.44 472.44,-472.44 472.44,472.44 -472.44,472.44 -472.44,-472.44
Mechanical 1:
  lines w1: -472.44,-472.44 472.44,-472.44 472.44,490.73 -472.44,490.73 -472.44,-472.44
Mechanical 5:
  lines w10: -472.44,-472.44 -472.44,472.44 472.44,472.44 472.44,-472.44 -472.44,-472.44
Mechanical 13:
  lines w1: -1020,505 -1039,505 -1039,555 -1020,555 ; -740,505 -721,505 -721,555 -740,555 ; -683.5,580 0,580 ; -472.44,570.87 -472.44,888.43 ; -242,790 -472.44,790 ; -185.5,715 -204.5,715 -204.5,765 -185.5,765 ; 0,539.37 0,678.43 ; 31.5,539.37 31.5,678.43 ; 145.5,715 164.5,715 164.5,765 145.5,765 ; 202,790 472.44,790 ; 346.46,580 31.5,580 ; 472.44,570.87 472.44,888.43 ; 539.37,0 818.43,0 ; 539.37,31.5 818.43,31.5 ; 570.87,-472.44 1128.43,-472.44 ; 570.87,472.44 1128.43,472.44 ; 580,-745 561,-745 561,-695 580,-695 ; 720,-557.5 720,0 ; 720,346.46 720,31.5 ; 860,-745 879,-745 879,-695 860,-695 ; 864.5,-125 845.5,-125 845.5,-75 864.5,-75 ; 1030,-162.5 1030,-472.44 ; 1030,62.5 1030,472.44 ; 1195.5,-125 1214.5,-125 1214.5,-75 1195.5,-75 ; -472.44,790 -314.96,814.61 -314.96,765.39 -472.44,790 ; 0,580 -157.48,555.39 -157.48,604.61 0,580 ; 31.5,580 188.98,604.61 188.98,555.39 31.5,580 ; 472.44,790 314.96,765.39 314.96,814.61 472.44,790 ; 720,0 744.61,-157.48 695.39,-157.48 720,0 ; 720,31.5 695.39,188.98 744.61,188.98 720,31.5 ; 1030,-472.44 1005.39,-314.96 1054.61,-314.96 1030,-472.44 ; 1030,472.44 1054.61,314.96 1005.39,314.96 1030,472.44
  text "0.8" at 650,-645 h36
  text "31.50" at 599,-745 h36
  text "24" at 985.5,-25 h36
  text "944.88" at 883.5,-125 h36
  text "0.8" at -950,605 h36
  text "31.50" at -1001,505 h36
  text "24" at -64.5,815 h36
  text "944.88" at -166.5,715 h36
Mechanical 16:
  pour cut-out: -472.13,472.45 -472.13,-473.24 473.31,-473.24 473.31,472.45
  region: -472.11,472.5 -472.11,-473.25 473.3,-473.25 473.3,472.5
  lines w1: -472,-473.2 473.3,-473.2 473.3,472.24 -472,472.24 -472,-473.2
3D body: height 150, standoff 0, extent -472.11,-473.25 473.3,472.5

## C0402 [mil] "C0402"
pads (2):
  round 20 smd: 1(-19.68,0) 2(19.68,0)
Top Overlay:
  lines w1.97: -35.43,-17.72 -35.43,17.72 35.43,17.72 35.43,-17.72 -35.43,-17.72
  lines w2.5: -3,-12 -3,12 ; 3,-12 3,12
Mechanical 17:
  text "0.1uF" at 25,-20 h25

## C0402_2 [mil]
pads (2):
  round 20 smd: 1(-19.68,0) 2(19.68,0)
Top Overlay:
  lines w1.97: -35.43,-17.72 35.43,-17.72 35.43,17.72 -35.43,17.72 -35.43,-17.72
Mechanical 13:
  lines w3.94: -21.65,-11.81 -21.65,11.81 21.65,11.81 21.65,-11.81 -21.65,-11.81
Mechanical 15:
  lines w1.97: -35.43,-17.72 35.43,-17.72 35.43,17.72 -35.43,17.72 -35.43,-17.72
  lines w3.94: -9.84,0 9.84,0 ; 0,-9.84 0,9.84
3D body "C 0402.STEP": height 20.68, standoff 0.21, extent -19.68,-10.23 19.69,10.24

## C0402_BGA [mil] "C0402_BGA"
pads (2):
  round 20 smd: 1(-19.68,0) 2(19.68,0)
Top Overlay:
  lines w1.97: -35.43,-17.72 35.43,-17.72 35.43,17.72 -35.43,17.72 -35.43,-17.72
  lines w2.5: -3,-12 -3,12 ; 3,-12 3,12

## C0603 [mil] "C0603"
pads (2):
  oval 40x32 smd: 1(0,32.5) 2(0,-32.5)
Top Overlay:
  lines w10: -28,-46.5 ccw(c-18,-46.5) -18,-56.5 18,-56.5 ccw(c18,-46.5) 28,-46.5 28,46.5 ccw(c18,46.5) 18,56.5 -18,56.5 ccw(c-18,46.5) -28,46.5 -28,-46.5 ; -15,-7.5 15,-7.5 15,7.5 -15,7.5 -15,-7.5
Mechanical 5:
  lines w10: -28,-46.5 ccw(c-18,-46.5) -18,-56.5 18,-56.5 ccw(c18,-46.5) 28,-46.5 28,46.5 ccw(c18,46.5) 18,56.5 -18,56.5 ccw(c-18,46.5) -28,46.5 -28,-46.5 ; -15,-7.5 -15,7.5 15,7.5 15,-7.5 -15,-7.5
  text "C1779" at -22.45,112.34 h25
Mechanical 14:
  text "2" at 0,-21.3 h28
  text "1" at 0,43.7 h28
Mechanical 16:
  region: -17.13,-33.46 17.13,-33.46 17.13,33.46 -17.13,33.46
  pour cut-out: 28,56.5 28,-56.5 -28,-56.5 -28,56.5
  lines w1: -17.13,-33.46 17.13,-33.46 17.13,33.46 -17.13,33.46 -17.13,-33.46
Mechanical 17:
  text ".Designator" at 0,60 h36
3D body: height 150, standoff 0, extent -17.13,-33.46 17.13,33.46

## C0805 [mil] "C0805"
pads (2):
  oval 70x35 smd: 1(0,-40) 2(0,40)
Top Overlay:
  lines w10: -43,-45.5 ccw(c-23,-45.5) -23,-65.5 23,-65.5 ccw(c23,-45.5) 43,-45.5 43,45.5 ccw(c23,45.5) 23,65.5 -23,65.5 ccw(c-23,45.5) -43,45.5 -43,-45.5 ; -25,-10 -25,10 25,10 25,-10 -25,-10

## C1206 [mil] "C1206"
pads (2):
  rrect36% 55x85 smd: 1(-45.28,0) 2(72.84,0)
Top Overlay:
  lines w9.84: 60.78,-50.5 86.19,-50.5 ccw(c86.19,-27.4) 109.29,-27.4 109.29,29.55 ccw(c88.34,29.55) 88.34,50.5 60.78,50.5
  lines w10: 60.78,-50.5 -60.78,-50.5 cw(c-60.78,-30.5) -80.78,-30.5 -80.78,30.5 cw(c-60.78,30.5) -60.78,50.5 60.78,50.5 ; 5.44,-35 5.44,35 21.18,35 21.18,-35 5.44,-35
Mechanical 5:
  lines w9.84: 60.78,-50.5 86.19,-50.5 ccw(c86.2,-27.4) 97.72,-47.42 ; 60.78,50.5 88.34,50.5 cw(c88.34,29.55) 99.28,47.42 ; 105.26,-40.45 ccw(c86.19,-27.41) 109.29,-27.4 109.29,29.55 ccw(c88.34,29.55) 105.26,41.91
  lines w10: -77.78,-41.04 cw(c-60.78,-30.5) -80.78,-30.5 -80.78,30.5 cw(c-60.78,30.5) -77.78,41.04 ; -71.32,-47.5 ccw(c-60.78,-30.5) -60.78,-50.5 60.78,-50.5 ; -71.32,47.5 cw(c-60.78,30.5) -60.78,50.5 60.78,50.5 ; 5.44,-35 21.18,-35 21.18,35 5.44,35 5.44,-35
  text "C1152" at 102.5,17.5 h25
Mechanical 13:
  lines w1: -605.45,-240 -624.44,-240 -624.44,-190 -605.45,-190 ; -274.56,-240 -255.57,-240 -255.57,-190 -274.56,-190 ; -218.07,-165 -62.99,-165 ; -62.99,-263.43 -62.99,-129.93 ; 62.99,-263.43 62.99,-129.93 ; 161.42,-31.5 598.43,-31.5 ; 161.42,31.5 598.43,31.5 ; 360.04,-475 341.05,-475 341.05,-425 360.04,-425 ; 377.95,-165 62.99,-165 ; 500,-287.5 500,-31.5 ; 500,346.46 500,31.5 ; 639.95,-475 658.94,-475 658.94,-425 639.95,-425 ; -62.99,-165 -220.47,-140.4 -220.47,-189.6 -62.99,-165 ; 62.99,-165 220.47,-189.6 220.47,-140.4 62.99,-165 ; 500,-31.5 475.4,-188.98 524.6,-188.98 500,-31.5 ; 500,31.5 524.6,188.98 475.4,188.98 500,31.5
  text "3.2" at -509.98,-140 h50
  text "125.98" at -586.45,-240 h50
  text "1.6" at 430.02,-375 h50
  text "63.00" at 379.04,-475 h50
Mechanical 14:
  text "2" at 62.84,0 h25
  text "1" at -55.28,0 h25
Mechanical 16:
  pour cut-out: -80.78,-50.5 100,-50.5 100,50.5 -80.78,50.5
  lines w1: -62.99,-31.5 -62.99,31.5 ; -62.99,-31.5 62.99,-31.5 ; -62.99,-31.5 -62.99,31.5 ; -62.99,-31.5 62.99,-31.5 ; -62.99,31.5 62.99,31.5 ; -62.99,31.5 62.99,31.5 ; 62.99,-31.5 62.99,31.5 ; 62.99,-31.5 62.99,31.5
Mechanical 17:
  text ".Designator" at -100.01,16.67 h50

## C1210 [mil] "C1210"
pads (2):
  rect 80x100 smd: 1(-65,0) 2(65,0)
Top Overlay:
  lines w8: -15,-40 -15,35 ; 15,-40 15,35 ; -120,-65 120,-65 120,65 -120,65 -120,-65
Mechanical 5:
  lines w8: -15,-40 -15,35 ; 15,-40 15,35 ; -120,-65 120,-65 120,65 -120,65 -120,-65
  text "CD1" at 27.51,-82.5 h25
  text "CAP_POL_C1210_100UF" at -100,100 h63
Mechanical 14:
  text "2" at 97,0 h80
  text "1" at -33,0 h80
Mechanical 16:
  region: -69,-55 69,-55 69,55 -69,55
3D body: height 150, standoff 0, extent -69,-55 69,55

## C7343 [mil] "C7343"
pads (2):
  rect 98x67 smd: 1(0,121.98) 2(0,-161.35)
Top Overlay:
  lines w9.84: -93.58,-163.48 -93.58,-204.06 93.58,-204.06 93.58,-163.48
  lines w10: -93.58,-163.48 -93.58,163.48 ; -93.58,173.48 93.58,173.48 ; -93.58,183.48 93.58,183.48 ; 93.58,-163.48 93.58,163.48 ; -93.58,163.48 93.58,163.48 ; -93.58,163.48 93.58,163.48
Mechanical 5:
  lines w9.84: -93.58,-163.48 -93.58,-204.06 93.58,-204.06 93.58,-163.48
  lines w10: -93.58,-163.48 -93.58,163.48 ; -93.58,173.48 93.58,173.48 ; -93.58,183.48 93.58,183.48 ; 93.58,-163.48 93.58,163.48 ; -93.58,163.48 93.58,163.48 ; -93.58,163.48 93.58,163.48
  text "CT1" at -30,209.48 h25
Mechanical 13:
  lines w1: -330,-121.98 -100,-121.98 ; -330,121.98 -100,121.98 ; -305,-175.5 -305,-194.5 -255,-194.5 -255,-175.5 ; -305,155.5 -305,174.5 -255,174.5 -255,155.5 ; -230,-232 -230,-121.98 ; -230,212 -230,121.98 ; -230,-121.98 -255,-271.98 -205,-271.98 -230,-121.98 ; -230,121.98 -205,271.98 -255,271.98 -230,121.98
  text "6.2" at -205,60 h25
  text "243.97" at -305,136.5 h25
Mechanical 14:
  text "2" at -10,-161.35 h25
  text "1" at -10,121.98 h25
Mechanical 16:
  region: -88.58,147.64 -88.58,-147.64 88.58,-147.64 88.58,147.64
  pour cut-out: 57,163.48 57,152.64 93.58,152.64 93.58,-152.64 57,-152.64 57,-163.48 -57,-163.48 -57,-152.64 -93.58,-152.64 -93.58,152.64 -57,152.64 -57,163.48
  lines w1: -88.58,-147.64 88.58,-147.64 88.58,147.64 -88.58,147.64 -88.58,-147.64
Mechanical 17:
  text ".Designator" at -30,-16.67 h25
3D body: height 150, standoff 0, extent -88.58,-147.64 88.58,147.64

## CRYSTAL_3225 [mm]
pads (4):
  rect 1.4x1.2 smd: 1(0,0) 2(2.2,0) 3(2.2,1.7) 4(0,1.7)
Top Overlay:
  circle w0.1: c-1.15,-0.15 r0.05
  lines w0.1: -0.914,-0.762 3.073,-0.762 3.073,2.515 -0.914,2.515 -0.914,-0.762
Mechanical 13:
  lines w0.1: -0.521,-0.379 -0.521,2.121 2.679,2.121 2.679,-0.379 -0.521,-0.379
Mechanical 15:
  lines w0.05: -0.813,-0.66 -0.813,2.438 3.023,2.438 3.023,-0.66 -0.813,-0.66
  lines w0.1: 0.35,1.075 1.35,1.075 ; 0.85,0.575 0.85,1.575
3D body: height 0.7, standoff 0.1, extent -0.508,-0.412 2.692,2.088

## DIP34 [mm]
pads (34):
  rect 0.9x0.9 hole 0.7: 1(0,0)
  round 0.9 hole 0.7: 2(0,-1.27) 3(0,-2.54) 4(0,-3.81) 5(0,-5.08) 6(0,-6.35) 7(0,-7.62) 8(0,-8.89) 9(0,-10.16) 10(0,-11.43) 11(0,-12.7) 12(0,-13.97) 13(0,-15.24) 14(0,-16.51) 15(0,-17.78) 16(0,-19.05) 17(0,-20.32) 18(1.27,-20.32) 19(1.27,-19.05) 20(1.27,-17.78) 21(1.27,-16.51) 22(1.27,-15.24) 23(1.27,-13.97) 24(1.27,-12.7) 25(1.27,-11.43) 26(1.27,-10.16) 27(1.27,-8.89) 28(1.27,-7.62) 29(1.27,-6.35) 30(1.27,-5.08) 31(1.27,-3.81) 32(1.27,-2.54) 33(1.27,-1.27) 34(1.27,0)
Top Overlay:
  lines w0.2: 0.318,2.794 ccw(c0.635,2.794) 0.953,2.794 ; 0.318,2.835 2.285,2.835 2.285,-23.155 -1.015,-23.155 -1.015,2.835 0.953,2.835